# Altium footprint library PCB_Altium_Library_Manuel.PcbLib: 63 footprints (part 1 of 4)
Each footprint in its own frame and in the unit in brackets; x right, y up, seen from the top. Pads: shape width x height; smd on the part's side, far side on the other; paste and mask are expansions set on the pad; w line width, h text height; cw(c..) or ccw(c..) is an arc to the next point about the centre after c.
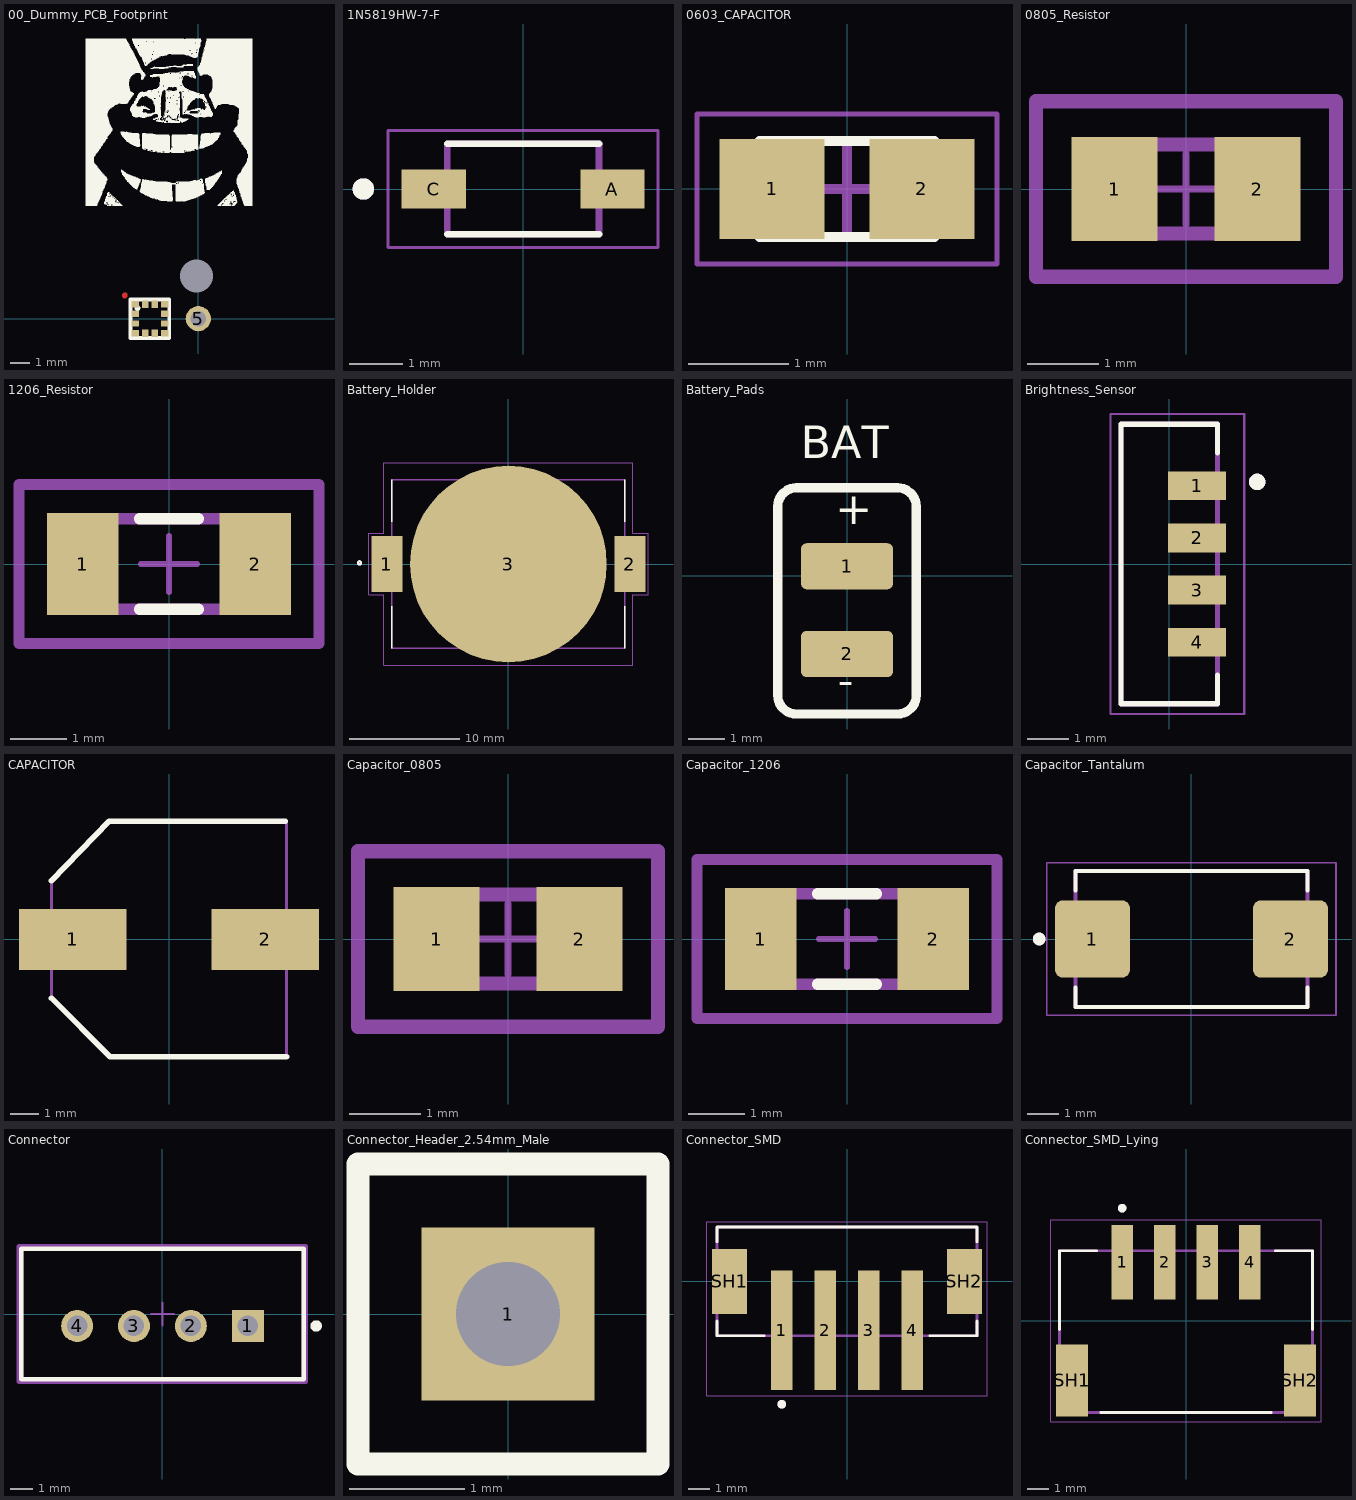
[diagram p0: the footprints below, top view; thin cyan lines are the x and y axes]

## 00_Dummy_PCB_Footprint [mm] "SMD, 2 x 2 x 1 mm3, 12 Pin"
pads (14):
  round 0 hole 1.7 unplated: 0(-0.1,2.2)
  rect 0.375x0.325 smd: 1(-3.263,0.75) 2(-3.263,0.25) 3(-3.263,-0.25) 4(-3.263,-0.75) 7(-1.737,-0.75) 8(-1.737,-0.25) 9(-1.737,0.25) 10(-1.737,0.75)
  rect 0.325x0.375 smd mask+0.095: 5(-2.75,-0.75) 6(-2.25,-0.75)
  round 1.3 / inner round 1.3 / far side oval 1.3x2 hole 0.8: 5(0,0)
  rect 0.325x0.375 smd: 11(-2.25,0.75) 12(-2.75,0.75)
Top Layer:
  circle w0.2: c-3.8,1.2 r0.05
Top Overlay:
  drawing of 30 lines, arcs and shapes, not listed
Top Solder:
  region: -1.45,-0.85 -3.55,-0.85 -3.55,-1.05 -1.45,-1.05
  rectangle: -3.55,0.85 -1.45,1.05
3D body: height 1, standoff 0.9, extent -3.3,0.4 -3,0.7
3D body: height 1, standoff 0.05, extent -3.4,1.4 -1.4,3.4

## 1N5819HW-7-F [mm] "Schottky - diode"
pads (2):
  rect 1.21x0.73 smd: A(1.68,0) C(-1.68,0)
Top Overlay:
  circle w0.2: c-3,0 r0.1
  lines w0.127: -1.425,-0.85 1.425,-0.85 ; -1.425,0.85 1.425,0.85
Mechanical 13:
  circle w0.2: c-3,0 r0.1
  lines w0.127: -1.425,-0.85 -1.425,0.85 1.425,0.85 1.425,-0.85 -1.425,-0.85
Mechanical 15:
  lines w0.05: -2.535,-1.1 -2.535,1.1 2.535,1.1 2.535,-1.1 -2.535,-1.1
3D body "step_temp.STEP": height 1.51, standoff -0.02, extent -1.825,-0.775 1.825,0.775

## 0603_CAPACITOR [mm]
pads (2):
  rect 1.05x1 smd: 1(-0.75,0) 2(0.75,0)
Top Overlay:
  lines w0.1: -0.875,-0.48 -0.875,0.48 0.875,0.48 0.875,-0.48 -0.875,-0.48
Mechanical 15:
  lines w0.05: -1.5,-0.75 -1.5,0.75 1.5,0.75 1.5,-0.75 -1.5,-0.75
  lines w0.1: -0.48,0 0.48,0 ; 0,-0.48 0,0.48
3D body: height 0.9, standoff 0, extent -0.525,-0.48 0.525,0.48
3D body: height 0.9, standoff 0, extent -0.875,-0.48 -0.525,0.48
3D body: height 0.9, standoff 0, extent 0.525,-0.48 0.875,0.48

## 0805_Resistor [mm] "0805"
pads (2):
  rect 1.208x1.462 smd paste+0 mask+0: 1(-1.002,0) 2(1.002,0)
Top 3D Body:
  lines w0.2: -1,-0.625 1,-0.625 1,0.625 -1,0.625 -1,-0.625
Board:
  lines w0.2: -2.106,-1.231 2.106,-1.231 2.106,1.231 -2.106,1.231 -2.106,-1.231
Top Assembly:
  lines w0.2: -2.106,-1.231 2.106,-1.231 2.106,1.231 -2.106,1.231 -2.106,-1.231
  text ".Designator" at 0,0.188 h1
Top Component Center:
  lines w0.1: -0.5,0 0.5,0 ; 0,-0.5 0,0.5
3D body "Res_Yageo_AC0805FR-074R22L_eec.STEP": height 0.25, standoff 0, extent -2.106,-1.231 2.106,1.231

## 1206_Resistor [mm] "1206"
pads (2):
  rect 1.258x1.812 smd paste+0 mask+0: 1(-1.527,0) 2(1.527,0)
Top Overlay:
  lines w0.2: -0.523,-0.8 0.523,-0.8 ; -0.523,0.8 0.523,0.8
Top 3D Body:
  lines w0.2: -1.55,-0.8 1.55,-0.8 1.55,0.8 -1.55,0.8 -1.55,-0.8
Board:
  lines w0.2: -2.656,-1.406 2.656,-1.406 2.656,1.406 -2.656,1.406 -2.656,-1.406
Top Assembly:
  lines w0.2: -2.656,-1.406 2.656,-1.406 2.656,1.406 -2.656,1.406 -2.656,-1.406
  text ".Designator" at 0,0.188 h1
Top Component Center:
  lines w0.1: -0.5,0 0.5,0 ; 0,-0.5 0,0.5
3D body "Res_Yageo_SR1206FR-7T18KL_eec.STEP": height 0.25, standoff 0, extent -2.656,-1.406 2.656,1.406

## Battery_Holder [mm] "MPD_BK-912-TR, Battery Retainer Coin, 20.0mm 1 Cell SMD _SMT_ Tab."
pads (3):
  rect 2.79x5.08 smd: 1(-10.985,0) 2(10.985,0)
  round 17.78 smd: 3(0,0)
Top Overlay:
  circle w0.2: c-13.45,0.1 r0.141
  lines w0.127: -10.54,-7.62 -10.54,-3.81 ; -10.54,3.81 -10.54,7.62 ; 10.54,-7.62 10.54,-3.81 ; 10.54,3.81 10.54,7.62
Mechanical 13:
  circle w0.2: c-13.45,0.1 r0.141
  lines w0.127: -10.54,-7.62 -10.54,7.62 10.54,7.62 10.54,-7.62 -10.54,-7.62
Mechanical 15:
  lines w0.05: -12.625,-2.8 -12.625,2.8 -11.25,2.8 -11.25,9.14 11.25,9.14 11.25,2.8 12.625,2.8 12.625,-2.8 11.25,-2.8 11.25,-9.14 -11.25,-9.14 -11.25,-2.8 -12.625,-2.8
3D body "BK-912-TR.STEP": height 4.32, standoff 0, extent -11.43,-7.62 11.43,7.797

## Battery_Pads [mil]
pads (2):
  rrect25% 100x50 smd: 1(0,10) 2(0,-85)
Top Overlay:
  lines w10: -75,-130 ccw(c-55,-130) -55,-150 55,-150 ccw(c55,-130) 75,-130 75,75 ccw(c55,75) 55,95 -55,95 ccw(c-55,75) -75,75 -75,-130
  text "BAT" at -50,115 h60
  text "-" at -10.05,-141.52 h60
  text "+" at -12.67,43.8 h60

## Brightness_Sensor [mm] "VEML7700-TR, SENSOR OPT 545NMAMB 4 SMD J LEAD."
pads (4):
  rect 1.4x0.7 smd: 1(0.675,1.905) 2(0.675,0.635) 3(0.675,-0.635) 4(0.675,-1.905)
Top Overlay:
  circle w0.2: c2.139,1.998 r0.1
  lines w0.127: 1.175,-2.7 1.175,-3.4 -1.175,-3.4 -1.175,3.4 1.175,3.4 1.175,2.7
Mechanical 13:
  circle w0.2: c2.139,1.998 r0.1
  lines w0.127: -1.175,-3.4 -1.175,3.4 1.175,3.4 1.175,-3.4 -1.175,-3.4
Mechanical 15:
  lines w0.05: -1.425,-3.65 -1.425,3.65 1.825,3.65 1.825,-3.65 -1.425,-3.65
3D body "step_temp.STEP": height 1.35, standoff -1, extent -1.5,-3.4 1.5,3.4

## CAPACITOR [mm] "Aluminum Organic Polymer Capacitors 6.3V 470uF 105C"
pads (2):
  rect 3.8x2.15 smd: 1(-3.4,0) 2(3.4,0)
Top Overlay:
  lines w0.2: -4.15,-2.075 -2.075,-4.15 4.15,-4.15 ; -4.15,2.075 -2.114,4.181 4.111,4.181
Mechanical 13:
  lines w0.1: -4.15,-2.075 -2.075,-4.15 4.15,-4.15 4.15,4.15 -2.075,4.15 -4.15,2.075 -4.15,-2.075
3D body "RHA0J471MCN1GS.stp": height 7, standoff 0, extent -4.6,-4.25 4.6,4.25

## Capacitor_0805 [mm] "0805"
pads (2):
  rect 1.208x1.462 smd paste+0 mask+0: 1(-1.002,0) 2(1.002,0)
Top 3D Body:
  lines w0.2: -1,-0.625 -1,0.625 1,0.625 1,-0.625 -1,-0.625
Board:
  lines w0.2: -2.106,-1.231 -2.106,1.231 2.106,1.231 2.106,-1.231 -2.106,-1.231
Top Assembly:
  lines w0.2: -2.106,-1.231 -2.106,1.231 2.106,1.231 2.106,-1.231 -2.106,-1.231
  text ".Designator" at 0,0.188 h1
Top Component Center:
  lines w0.1: -0.5,0 0.5,0 ; 0,-0.5 0,0.5
3D body "Cap_KEMET_C0805C472J3HAC_eec.STEP": height 0.25, standoff 0, extent -2.153,-1.278 2.153,1.278

## Capacitor_1206 [mm] "1206"
pads (2):
  rect 1.258x1.812 smd paste+0 mask+0: 1(-1.527,0) 2(1.527,0)
Top Overlay:
  lines w0.2: -0.523,-0.8 0.523,-0.8 ; -0.523,0.8 0.523,0.8
Top 3D Body:
  lines w0.2: -1.55,-0.8 -1.55,0.8 1.55,0.8 1.55,-0.8 -1.55,-0.8
Board:
  lines w0.2: -2.656,-1.406 -2.656,1.406 2.656,1.406 2.656,-1.406 -2.656,-1.406
Top Assembly:
  lines w0.2: -2.656,-1.406 -2.656,1.406 2.656,1.406 2.656,-1.406 -2.656,-1.406
  text ".Designator" at 0,0.188 h1
Top Component Center:
  lines w0.1: -0.5,0 0.5,0 ; 0,-0.5 0,0.5
3D body "Cap_KEMET_C1206C472K4RACTU_eec.STEP": height 0.25, standoff 0, extent -2.753,-1.453 2.753,1.453

## Capacitor_Tantalum [mm] "593D477X96R3E2TE3, 470 µF Molded Tantalum Capacitors 6.3 V 2917 (7343 Metric) 100mOhm."
pads (2):
  rrect21% 2.37x2.43 smd paste+0 mask+0.102: 1(-3.12,0) 2(3.12,0)
Top Overlay:
  circle w0.2: c-4.8,0 r0.1
  lines w0.127: -3.65,-1.53 -3.65,-2.15 3.65,-2.15 3.65,-1.53 ; -3.65,1.53 -3.65,2.15 3.65,2.15 3.65,1.53
Mechanical 13:
  circle w0.2: c-4.8,0 r0.1
  lines w0.127: -3.65,-2.15 -3.65,2.15 3.65,2.15 3.65,-2.15 -3.65,-2.15
Mechanical 15:
  lines w0.05: -4.555,-2.4 -4.555,2.4 4.555,2.4 4.555,-2.4 -4.555,-2.4
3D body "593D477X96R3E2TE3.STEP": height 4.3, standoff 0, extent -3.65,-2.15 3.65,2.15

## Connector [mm] "FP-B4B-XH-A_LF_SN-MFG"
pads (4):
  rect 1.4x1.4 hole 0.9 paste-2539.97 mask+0: 1(3.75,-0.525)
  round 1.4 hole 0.9 paste-2539.97 mask+0: 2(1.25,-0.525) 3(-1.25,-0.525) 4(-3.75,-0.525)
Top Overlay:
  circle w0.25: c6.75,-0.525 r0.125
  lines w0.2: -6.2,-2.875 6.2,-2.875 6.2,2.875 -6.2,2.875 -6.2,-2.875
Top 3D Body:
  lines w0.2: -6.2,-2.875 6.2,-2.875 6.2,2.875 -6.2,2.875 -6.2,-2.875
Board:
  lines w0.2: -6.3,-2.975 6.3,-2.975 6.3,2.975 -6.3,2.975 -6.3,-2.975
Top Assembly:
  lines w0.2: -6.3,-2.975 6.3,-2.975 6.3,2.975 -6.3,2.975 -6.3,-2.975
  text ".Designator" at 0,0.188 h1
Top Component Center:
  lines w0.1: -0.5,0 0.5,0 ; 0,-0.5 0,0.5
3D body "Conn_JST_B4B-XH-A_LF_SN_eec.STEP": height 0.25, standoff 0, extent -6.3,-2.975 6.3,2.975

## Connector_Header_2.54mm_Male [mm]
pads (1):
  rect 1.5x1.5 / inner round 1.5 / far side oval 2x1.5 hole 0.9: 1(0,0)
Top Overlay:
  lines w0.2: -1.3,-1.3 -1.3,1.3 1.3,1.3 1.3,-1.3 -1.3,-1.3
3D body "CON_Male_1Pin_PH1-01-UA.stp": height 8.88, standoff -3.43, extent -1.27,-1.25 1.27,1.25

## Connector_SMD [mm] "B4B-PH-SM4-TB, CONN HEADER SMD 4POS 2MM."
pads (6):
  rect 1x5.5 smd: 1(-3,-2.25) 2(-1,-2.25) 3(1,-2.25) 4(3,-2.25)
  rect 1.6x3 smd: SH1(-5.4,0) SH2(5.4,0)
Top Overlay:
  circle w0.2: c-3,-5.65 r0.1
  lines w0.127: -5.975,-1.82 -5.975,-2.5 -3.82,-2.5 ; -5.975,1.82 -5.975,2.5 5.975,2.5 5.975,1.82 ; 3.82,-2.5 5.975,-2.5 5.975,-1.82
Mechanical 13:
  circle w0.2: c-3,-5.65 r0.1
  lines w0.127: -5.975,-2.5 -5.975,2.5 5.975,2.5 5.975,-2.5 -5.975,-2.5
Mechanical 15:
  lines w0.05: -6.45,-5.25 6.45,-5.25 6.45,2.75 -6.45,2.75 -6.45,-5.25
3D body "B4B-PH-SM4-TB--3DModel-STEP-510211.STEP": height 6.75, standoff 0, extent -5.975,-4.5 5.975,2.5

## Connector_SMD_Lying [mm] "S4B-PH-SM4-TB, Connector Header Surface Mount, Right Angle 4 position 0.079 (2.00mm)."
pads (6):
  rect 1x3.5 smd: 1(-3,2.75) 2(-1,2.75) 3(1,2.75) 4(3,2.75)
  rect 1.5x3.4 smd: SH1(-5.35,-2.8) SH2(5.35,-2.8)
Top Overlay:
  circle w0.2: c-3,5.3 r0.1
  lines w0.127: -5.95,-0.4 -5.95,3.3 -4.2,3.3 ; -4,-4.3 4,-4.3 ; 4.2,3.3 5.95,3.3 5.95,-0.4
Mechanical 13:
  circle w0.2: c-3,5.3 r0.1
  lines w0.127: -5.95,-4.3 5.95,-4.3 5.95,3.3 -5.95,3.3 -5.95,-4.3
Mechanical 15:
  lines w0.05: -6.35,-4.75 -6.35,4.75 6.35,4.75 6.35,-4.75 -6.35,-4.75
3D body "step_temp.STEP": height 5.5, standoff -0.1, extent -5.95,-4.3 5.95,4.3